# EAGLE library part 8701 (library crasbe)
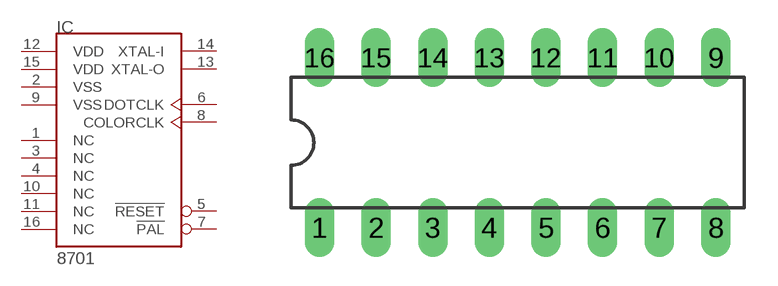
[diagram p11: symbol with the pads of DIL16; footprint DIL16]

Designator prefix IC

## 8701  [DIL16]
1  NC  nc
2  VSS  pwr
3  NC  nc
4  NC  nc
5  !RESET  in
6  DOTCLK  out
7  !PAL  in
8  COLORCLK  out
9  VSS  pwr
10  NC  nc
11  NC  nc
12  VDD  pwr
13  XTAL-O  out
14  XTAL-I  in
15  VDD  pwr
16  NC  nc

## Footprint DIL16 (pad centres in mm)
drill 0.813 long: 1 -8.89,-3.81; 2 -6.35,-3.81; 3 -3.81,-3.81; 4 -1.27,-3.81; 5 1.27,-3.81; 6 3.81,-3.81; 7 6.35,-3.81; 8 8.89,-3.81; 9 8.89,3.81; 10 6.35,3.81; 11 3.81,3.81; 12 1.27,3.81; 13 -1.27,3.81; 14 -3.81,3.81; 15 -6.35,3.81; 16 -8.89,3.81